# EAGLE library part LTC_BY_ELEMENT14_BATCH_1_LTC2950CTS8-1TRPBF (library Stackduino-SMD)
Push Button On/Off Controller
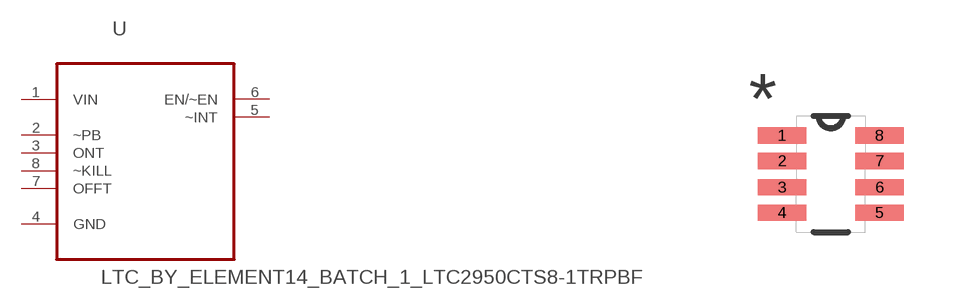
[diagram p0: symbol with the pads of LTC_BY_ELEMENT14_BATCH_1_SOT65P280X100-8N; footprint LTC_BY_ELEMENT14_BATCH_1_SOT65P280X100-8N]

Designator prefix U

## LTC_BY_ELEMENT14_BATCH_1_LTC2950CTS8-1TRPBF (MPN: LTC2950CTS8-1#TRPBF; OC_FARNELL: 1537418; OC_NEWARK: 56M7180; PACKAGE: TSOT-23-8; SUPPLIER: Linear Technology)  [LTC_BY_ELEMENT14_BATCH_1_SOT65P280X100-8N]
1  VIN  pwr
2  ~PB  in
3  ONT  in
4  GND  pas
5  ~INT  out
6  EN/~EN  out
7  OFFT  in
8  ~KILL  in

## Footprint LTC_BY_ELEMENT14_BATCH_1_SOT65P280X100-8N (pad centres in mm)
smd 1.219 x 0.406: 1 -1.219,0.965; 2 -1.219,0.33; 3 -1.219,-0.33; 4 -1.219,-0.965; 5 1.219,-0.965; 6 1.219,-0.33; 7 1.219,0.33; 8 1.219,0.965